# Altium schematic symbol library 50YXJ22M5X111_50YXJ22M5X11.SCHLIB: 1 symbol
Pins are listed as number, name and electrical type; pins without a type are passive.

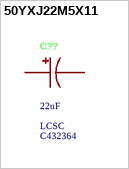
[diagram p0: symbol 50YXJ22M5X11]

## 50YXJ22M5X11
designator C??, comment Supplier: LCSC  Supplier Part: C432364  (hidden comment: 22uF)
Manufacturer: rubycon(红宝石); Symbol: 50YXJ22M5X11; Add into BOM: yes; Tolerance: ±20%; Device: 50YXJ22M5X11; Manufacturer Part: 50YXJ22M5X11; LCSC Part Name: 22uF ±20% 50V; Supplier Footprint: 插件,D5xL11mm; JLCPCB Part Class: Extended Part; Datasheet: https://atta.szlcsc.com/upload/public/pdf/source/20190927/C432444_D90212164DBC1B856ABE912664018FD4.pdf; Convert to PCB: yes; Ripple Current: -; Equivalent Series Resistance(ESR): -; Lead Spacing: 2mm; Lifetime @ Temp: -; Value: 22uF
footprint CAP-TH_BD5.0-P2.00-D0.5-FD-1
3D model CAP-TH_BD5.0-P2.00-D0.5-FD-1
pins: 1, 2